# Altium integrated library Cypress PLD Simple.IntLib: 183 symbols (part 5 of 5)
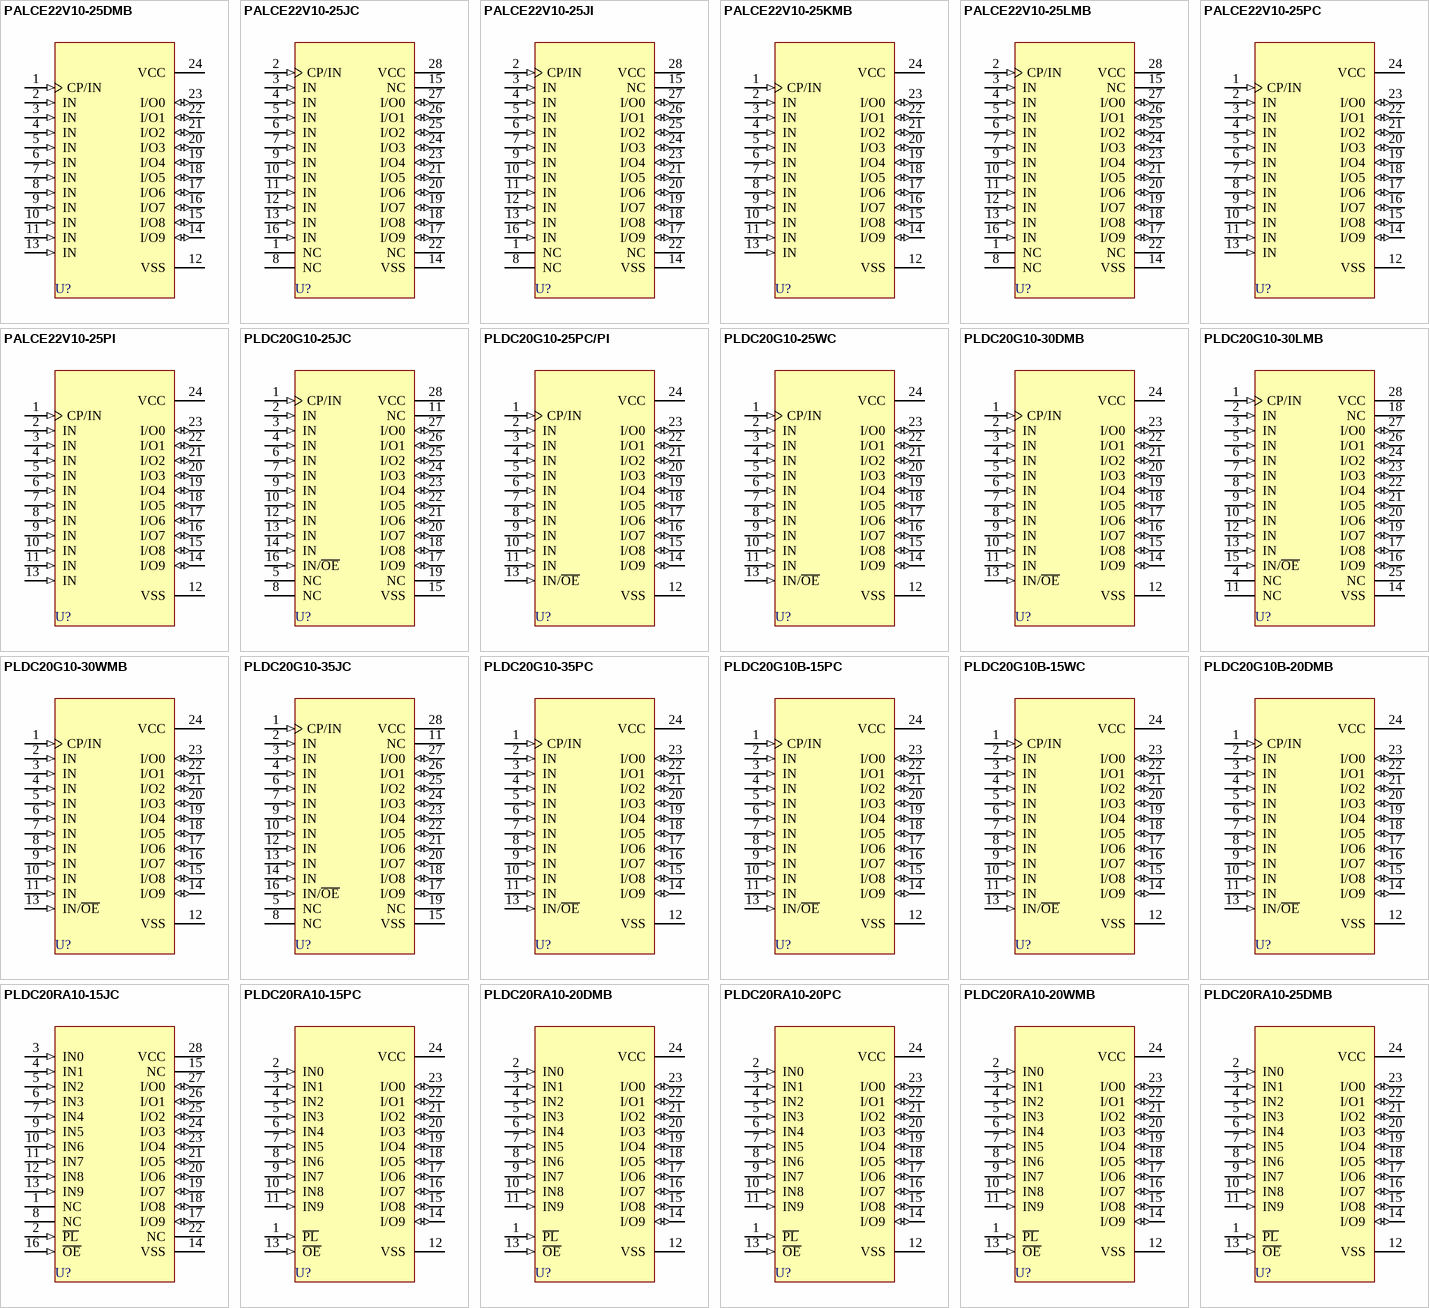
[diagram p11: symbols PALCE22V10-25DMB to PLDC20RA10-25DMB]

## PLDC20G10-30WMB
designator U?
CMOS Generic 24-Pin Reprogrammable Logic Device; ComponentAvailability: Not for New Design; Published: 11-Dec-2002; LatestRevisionDate: 04-Mar-2005; LatestRevisionNote: Stylized 3D Model Added.; DatasheetVersion: 26-Mar-1997; PackageVersion: Apr-2001; PackageReference: W14; Publisher: Altium Limited; PackageDescription: CerDIP, Window; 24 Leads; Row Spacing 7.62 mm; Pitch 2.54 mm; Code_JEDEC: MS-001-AF; ComponentLink1Description: Manufacturer Link; ComponentLink1URL: http://www.cypress.com/; ComponentLink2Description: Datasheet; ComponentLink2URL: http://www.cypress.com/portal/server.pt/gateway/PTARGS_0_2_1524_209_259_43/http%3B/sjapp20.mis.cypress.com%3B7001/publishedcontent/publish/design_resources/datasheets/contents/pldc20g10_5.pdf
footprint W14 (CerDIP, Window; 24 Leads; Row Spacing 7.62 mm; Pitch 2.54 mm)
3D model D14 (CerDIP, Window; 24 Leads; Row Spacing 7.62 mm; Pitch 2.54 mm)
pins: 1 CP/IN (in), 2 IN (in), 3 IN (in), 4 IN (in), 5 IN (in), 6 IN (in), 7 IN (in), 8 IN (in), 9 IN (in), 10 IN (in), 11 IN (in), 12 VSS (power), 13 IN/~{OE} (in), 14 I/O9 (io), 15 I/O8 (io), 16 I/O7 (io), 17 I/O6 (io), 18 I/O5 (io), 19 I/O4 (io), 20 I/O3 (io), 21 I/O2 (io), 22 I/O1 (io), 23 I/O0 (io), 24 VCC (power)

## PLDC20G10-35JC
designator U?
CMOS Generic 24-Pin Reprogrammable Logic Device; ComponentAvailability: Not for New Design; Published: 11-Dec-2002; LatestRevisionDate: 13-Apr-2006; LatestRevisionNote: IPC-7351 Footprint Added.; DatasheetVersion: 26-Mar-1997; PackageVersion: Jul-2000; PackageReference: J64; Publisher: Altium Limited; PackageDescription: 28-Pin Plastic Leaded Chip Carrier 1.27 mm Pitch; Code_IPC: PLCC-28; ComponentLink1Description: Manufacturer Link; ComponentLink1URL: http://www.cypress.com/; ComponentLink2Description: Datasheet; ComponentLink2URL: http://www.cypress.com/portal/server.pt/gateway/PTARGS_0_2_1524_209_259_43/http%3B/sjapp20.mis.cypress.com%3B7001/publishedcontent/publish/design_resources/datasheets/contents/pldc20g10_5.pdf
footprint J64_N (Leaded Chip Carrier, 28-Leads, Body 11.5x11.5mm, Pitch 1.27mm, IPC Medium Density)
footprint J64_L (Leaded Chip Carrier, 28-Leads, Body 11.5x11.5mm, Pitch 1.27mm, IPC High Density)
footprint J64_M (Leaded Chip Carrier, 28-Leads, Body 11.5x11.5mm, Pitch 1.27mm, IPC Low Density)
3D model PLDC20G10-J64 (28-Pin Plastic Leaded Chip Carrier 1.27 mm Pitch)
pins: 1 CP/IN (in), 2 IN (in), 3 IN (in), 4 IN (in), 5 NC, 6 IN (in), 7 IN (in), 8 NC, 9 IN (in), 10 IN (in), 11 NC, 12 IN (in), 13 IN (in), 14 IN (in), 15 VSS (power), 16 IN/~{OE} (in), 17 I/O9 (io), 18 I/O8 (io), 19 NC, 20 I/O7 (io), 21 I/O6 (io), 22 I/O5 (io), 23 I/O4 (io), 24 I/O3 (io), 25 I/O2 (io), 26 I/O1 (io), 27 I/O0 (io), 28 VCC (power)

## PLDC20G10-35PC
designator U?
CMOS Generic 24-Pin Reprogrammable Logic Device; ComponentAvailability: Not for New Design; Published: 11-Dec-2002; LatestRevisionDate: 06-Oct-2005; LatestRevisionNote: Increased PCB silkscreen length.; DatasheetVersion: 26-Mar-1997; PackageVersion: Mar-2005; PackageReference: P13; Publisher: Altium Limited; PackageDescription: DIP, Molded; 24 Leads; Row Spacing 7.62 mm; Pitch 2.54 mm; ComponentLink1Description: Manufacturer Link; ComponentLink1URL: http://www.cypress.com/; ComponentLink2Description: Datasheet; ComponentLink2URL: http://www.cypress.com/portal/server.pt/gateway/PTARGS_0_2_1524_209_259_43/http%3B/sjapp20.mis.cypress.com%3B7001/publishedcontent/publish/design_resources/datasheets/contents/pldc20g10_5.pdf
footprint P13 (DIP, Molded; 24 Leads; Row Spacing 7.62 mm; Pitch 2.54 mm)
3D model P13 (DIP, Molded; 24 Leads; Row Spacing 7.62 mm; Pitch 2.54 mm)
pins: 1 CP/IN (in), 2 IN (in), 3 IN (in), 4 IN (in), 5 IN (in), 6 IN (in), 7 IN (in), 8 IN (in), 9 IN (in), 10 IN (in), 11 IN (in), 12 VSS (power), 13 IN/~{OE} (in), 14 I/O9 (io), 15 I/O8 (io), 16 I/O7 (io), 17 I/O6 (io), 18 I/O5 (io), 19 I/O4 (io), 20 I/O3 (io), 21 I/O2 (io), 22 I/O1 (io), 23 I/O0 (io), 24 VCC (power)

## PLDC20G10B-15PC
designator U?
CMOS Generic 24-Pin Reprogrammable Logic Device; Published: 11-Dec-2002; LatestRevisionDate: 06-Oct-2005; LatestRevisionNote: Increased PCB silkscreen length.; DatasheetVersion: 26-Mar-1997; PackageVersion: Mar-2005; PackageReference: P13; Publisher: Altium Limited; PackageDescription: DIP, Molded; 24 Leads; Row Spacing 7.62 mm; Pitch 2.54 mm
footprint P13 (DIP, Molded; 24 Leads; Row Spacing 7.62 mm; Pitch 2.54 mm)
3D model P13 (DIP, Molded; 24 Leads; Row Spacing 7.62 mm; Pitch 2.54 mm)
pins: 1 CP/IN (in), 2 IN (in), 3 IN (in), 4 IN (in), 5 IN (in), 6 IN (in), 7 IN (in), 8 IN (in), 9 IN (in), 10 IN (in), 11 IN (in), 12 VSS (power), 13 IN/~{OE} (in), 14 I/O9 (io), 15 I/O8 (io), 16 I/O7 (io), 17 I/O6 (io), 18 I/O5 (io), 19 I/O4 (io), 20 I/O3 (io), 21 I/O2 (io), 22 I/O1 (io), 23 I/O0 (io), 24 VCC (power)

## PLDC20G10B-15WC
designator U?
CMOS Generic 24-Pin Reprogrammable Logic Device; ComponentAvailability: Not for New Design; Published: 11-Dec-2002; LatestRevisionDate: 04-Mar-2005; LatestRevisionNote: Stylized 3D Model Added.; DatasheetVersion: 26-Mar-1997; PackageVersion: Apr-2001; PackageReference: W14; Publisher: Altium Limited; PackageDescription: CerDIP, Window; 24 Leads; Row Spacing 7.62 mm; Pitch 2.54 mm; Code_JEDEC: MS-001-AF; ComponentLink1Description: Manufacturer Link; ComponentLink1URL: http://www.cypress.com/; ComponentLink2Description: Datasheet; ComponentLink2URL: http://www.cypress.com/portal/server.pt/gateway/PTARGS_0_2_1524_209_259_43/http%3B/sjapp20.mis.cypress.com%3B7001/publishedcontent/publish/design_resources/datasheets/contents/pldc20g10_5.pdf
footprint W14 (CerDIP, Window; 24 Leads; Row Spacing 7.62 mm; Pitch 2.54 mm)
3D model D14 (CerDIP, Window; 24 Leads; Row Spacing 7.62 mm; Pitch 2.54 mm)
pins: 1 CP/IN (in), 2 IN (in), 3 IN (in), 4 IN (in), 5 IN (in), 6 IN (in), 7 IN (in), 8 IN (in), 9 IN (in), 10 IN (in), 11 IN (in), 12 VSS (power), 13 IN/~{OE} (in), 14 I/O9 (io), 15 I/O8 (io), 16 I/O7 (io), 17 I/O6 (io), 18 I/O5 (io), 19 I/O4 (io), 20 I/O3 (io), 21 I/O2 (io), 22 I/O1 (io), 23 I/O0 (io), 24 VCC (power)

## PLDC20G10B-20DMB
designator U?
CMOS Generic 24-Pin Reprogrammable Logic Device; ComponentAvailability: Not for New Design; Published: 11-Dec-2002; LatestRevisionDate: 04-Mar-2005; LatestRevisionNote: Stylized 3D Model Added.; DatasheetVersion: 26-Mar-1997; PackageVersion: Jul-2001; PackageReference: D14; Publisher: Altium Limited; PackageDescription: CerDIP; 24 Leads; Row Spacing 7.62 mm; Pitch 2.54 mm; Code_JEDEC: MS-001-AF; ComponentLink1Description: Manufacturer Link; ComponentLink1URL: http://www.cypress.com/; ComponentLink2Description: Datasheet; ComponentLink2URL: http://www.cypress.com/portal/server.pt/gateway/PTARGS_0_2_1524_209_259_43/http%3B/sjapp20.mis.cypress.com%3B7001/publishedcontent/publish/design_resources/datasheets/contents/pldc20g10_5.pdf
footprint D14 (CerDIP; 24 Leads; Row Spacing 7.62 mm; Pitch 2.54 mm)
3D model D14 (CerDIP; 24 Leads; Row Spacing 7.62 mm; Pitch 2.54 mm)
pins: 1 CP/IN (in), 2 IN (in), 3 IN (in), 4 IN (in), 5 IN (in), 6 IN (in), 7 IN (in), 8 IN (in), 9 IN (in), 10 IN (in), 11 IN (in), 12 VSS (power), 13 IN/~{OE} (in), 14 I/O9 (io), 15 I/O8 (io), 16 I/O7 (io), 17 I/O6 (io), 18 I/O5 (io), 19 I/O4 (io), 20 I/O3 (io), 21 I/O2 (io), 22 I/O1 (io), 23 I/O0 (io), 24 VCC (power)

## PLDC20RA10-15JC
designator U?
Reprogrammable Asynchronous CMOS Logic Device; Published: 11-Dec-2002; LatestRevisionDate: 13-Apr-2006; LatestRevisionNote: IPC-7351 Footprint Added.; DatasheetVersion: 26-Mar-1997; PackageVersion: Jul-2000; PackageReference: J64; Publisher: Altium Limited; PackageDescription: 28-Pin Plastic Leaded Chip Carrier 1.27 mm Pitch; Code_IPC: PLCC-28; ComponentLink1Description: Manufacturer Link; ComponentLink1URL: http://www.cypress.com/
footprint J64_N (Leaded Chip Carrier, 28-Leads, Body 11.5x11.5mm, Pitch 1.27mm, IPC Medium Density)
footprint J64_L (Leaded Chip Carrier, 28-Leads, Body 11.5x11.5mm, Pitch 1.27mm, IPC High Density)
footprint J64_M (Leaded Chip Carrier, 28-Leads, Body 11.5x11.5mm, Pitch 1.27mm, IPC Low Density)
3D model PLDC20RA10-J64 (28-Pin Plastic Leaded Chip Carrier 1.27 mm Pitch)
pins: 1 NC, 2 ~{PL} (in), 3 IN0 (in), 4 IN1 (in), 5 IN2 (in), 6 IN3 (in), 7 IN4 (in), 8 NC, 9 IN5 (in), 10 IN6 (in), 11 IN7 (in), 12 IN8 (in), 13 IN9 (in), 14 VSS (power), 15 NC, 16 ~{OE} (in), 17 I/O9 (io), 18 I/O8 (io), 19 I/O7 (io), 20 I/O6 (io), 21 I/O5 (io), 22 NC, 23 I/O4 (io), 24 I/O3 (io), 25 I/O2 (io), 26 I/O1 (io), 27 I/O0 (io), 28 VCC (power)

## PLDC20RA10-15PC
designator U?
Reprogrammable Asynchronous CMOS Logic Device; Published: 11-Dec-2002; LatestRevisionDate: 06-Oct-2005; LatestRevisionNote: Increased PCB silkscreen length.; DatasheetVersion: 26-Mar-1997; PackageVersion: Mar-2005; PackageReference: P13; Publisher: Altium Limited; PackageDescription: DIP, Molded; 24 Leads; Row Spacing 7.62 mm; Pitch 2.54 mm; ComponentLink1Description: Manufacturer Link; ComponentLink1URL: http://www.cypress.com/
footprint P13 (DIP, Molded; 24 Leads; Row Spacing 7.62 mm; Pitch 2.54 mm)
3D model P13 (DIP, Molded; 24 Leads; Row Spacing 7.62 mm; Pitch 2.54 mm)
pins: 1 ~{PL} (in), 2 IN0 (in), 3 IN1 (in), 4 IN2 (in), 5 IN3 (in), 6 IN4 (in), 7 IN5 (in), 8 IN6 (in), 9 IN7 (in), 10 IN8 (in), 11 IN9 (in), 12 VSS (power), 13 ~{OE} (in), 14 I/O9 (io), 15 I/O8 (io), 16 I/O7 (io), 17 I/O6 (io), 18 I/O5 (io), 19 I/O4 (io), 20 I/O3 (io), 21 I/O2 (io), 22 I/O1 (io), 23 I/O0 (io), 24 VCC (power)

## PLDC20RA10-20DMB
designator U?
Reprogrammable Asynchronous CMOS Logic Device; Published: 11-Dec-2002; LatestRevisionDate: 04-Mar-2005; LatestRevisionNote: Stylized 3D Model Added.; DatasheetVersion: 26-Mar-1997; PackageVersion: Jul-2001; PackageReference: D14; Publisher: Altium Limited; PackageDescription: CerDIP; 24 Leads; Row Spacing 7.62 mm; Pitch 2.54 mm; Code_JEDEC: MS-001-AF; ComponentLink1Description: Manufacturer Link; ComponentLink1URL: http://www.cypress.com/
footprint D14 (CerDIP; 24 Leads; Row Spacing 7.62 mm; Pitch 2.54 mm)
3D model D14 (CerDIP; 24 Leads; Row Spacing 7.62 mm; Pitch 2.54 mm)
pins: 1 ~{PL} (in), 2 IN0 (in), 3 IN1 (in), 4 IN2 (in), 5 IN3 (in), 6 IN4 (in), 7 IN5 (in), 8 IN6 (in), 9 IN7 (in), 10 IN8 (in), 11 IN9 (in), 12 VSS (power), 13 ~{OE} (in), 14 I/O9 (io), 15 I/O8 (io), 16 I/O7 (io), 17 I/O6 (io), 18 I/O5 (io), 19 I/O4 (io), 20 I/O3 (io), 21 I/O2 (io), 22 I/O1 (io), 23 I/O0 (io), 24 VCC (power)

## PLDC20RA10-20PC
designator U?
Reprogrammable Asynchronous CMOS Logic Device; Published: 11-Dec-2002; LatestRevisionDate: 06-Oct-2005; LatestRevisionNote: Increased PCB silkscreen length.; DatasheetVersion: 26-Mar-1997; PackageVersion: Mar-2005; PackageReference: P13; Publisher: Altium Limited; PackageDescription: DIP, Molded; 24 Leads; Row Spacing 7.62 mm; Pitch 2.54 mm; ComponentLink1Description: Manufacturer Link; ComponentLink1URL: http://www.cypress.com/
footprint P13 (DIP, Molded; 24 Leads; Row Spacing 7.62 mm; Pitch 2.54 mm)
3D model P13 (DIP, Molded; 24 Leads; Row Spacing 7.62 mm; Pitch 2.54 mm)
pins: 1 ~{PL} (in), 2 IN0 (in), 3 IN1 (in), 4 IN2 (in), 5 IN3 (in), 6 IN4 (in), 7 IN5 (in), 8 IN6 (in), 9 IN7 (in), 10 IN8 (in), 11 IN9 (in), 12 VSS (power), 13 ~{OE} (in), 14 I/O9 (io), 15 I/O8 (io), 16 I/O7 (io), 17 I/O6 (io), 18 I/O5 (io), 19 I/O4 (io), 20 I/O3 (io), 21 I/O2 (io), 22 I/O1 (io), 23 I/O0 (io), 24 VCC (power)

## PLDC20RA10-20WMB
designator U?
Reprogrammable Asynchronous CMOS Logic Device; Published: 11-Dec-2002; LatestRevisionDate: 04-Mar-2005; LatestRevisionNote: Stylized 3D Model Added.; DatasheetVersion: 26-Mar-1997; PackageVersion: Apr-2001; PackageReference: W14; Publisher: Altium Limited; PackageDescription: CerDIP, Window; 24 Leads; Row Spacing 7.62 mm; Pitch 2.54 mm; Code_JEDEC: MS-001-AF; ComponentLink1Description: Manufacturer Link; ComponentLink1URL: http://www.cypress.com/
footprint W14 (CerDIP, Window; 24 Leads; Row Spacing 7.62 mm; Pitch 2.54 mm)
3D model D14 (CerDIP, Window; 24 Leads; Row Spacing 7.62 mm; Pitch 2.54 mm)
pins: 1 ~{PL} (in), 2 IN0 (in), 3 IN1 (in), 4 IN2 (in), 5 IN3 (in), 6 IN4 (in), 7 IN5 (in), 8 IN6 (in), 9 IN7 (in), 10 IN8 (in), 11 IN9 (in), 12 VSS (power), 13 ~{OE} (in), 14 I/O9 (io), 15 I/O8 (io), 16 I/O7 (io), 17 I/O6 (io), 18 I/O5 (io), 19 I/O4 (io), 20 I/O3 (io), 21 I/O2 (io), 22 I/O1 (io), 23 I/O0 (io), 24 VCC (power)

## PLDC20RA10-25DMB
designator U?
Reprogrammable Asynchronous CMOS Logic Device; Published: 11-Dec-2002; LatestRevisionDate: 04-Mar-2005; LatestRevisionNote: Stylized 3D Model Added.; DatasheetVersion: 26-Mar-1997; PackageVersion: Jul-2001; PackageReference: D14; Publisher: Altium Limited; PackageDescription: CerDIP; 24 Leads; Row Spacing 7.62 mm; Pitch 2.54 mm; Code_JEDEC: MS-001-AF; ComponentLink1Description: Manufacturer Link; ComponentLink1URL: http://www.cypress.com/
footprint D14 (CerDIP; 24 Leads; Row Spacing 7.62 mm; Pitch 2.54 mm)
3D model D14 (CerDIP; 24 Leads; Row Spacing 7.62 mm; Pitch 2.54 mm)
pins: 1 ~{PL} (in), 2 IN0 (in), 3 IN1 (in), 4 IN2 (in), 5 IN3 (in), 6 IN4 (in), 7 IN5 (in), 8 IN6 (in), 9 IN7 (in), 10 IN8 (in), 11 IN9 (in), 12 VSS (power), 13 ~{OE} (in), 14 I/O9 (io), 15 I/O8 (io), 16 I/O7 (io), 17 I/O6 (io), 18 I/O5 (io), 19 I/O4 (io), 20 I/O3 (io), 21 I/O2 (io), 22 I/O1 (io), 23 I/O0 (io), 24 VCC (power)

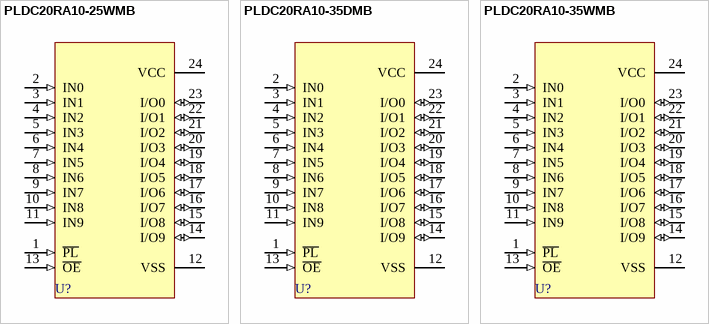
[diagram p7: symbols PLDC20RA10-25WMB to PLDC20RA10-35WMB]

## PLDC20RA10-25WMB
designator U?
Reprogrammable Asynchronous CMOS Logic Device; Published: 11-Dec-2002; LatestRevisionDate: 04-Mar-2005; LatestRevisionNote: Stylized 3D Model Added.; DatasheetVersion: 26-Mar-1997; PackageVersion: Apr-2001; PackageReference: W14; Publisher: Altium Limited; PackageDescription: CerDIP, Window; 24 Leads; Row Spacing 7.62 mm; Pitch 2.54 mm; Code_JEDEC: MS-001-AF; ComponentLink1Description: Manufacturer Link; ComponentLink1URL: http://www.cypress.com/
footprint W14 (CerDIP, Window; 24 Leads; Row Spacing 7.62 mm; Pitch 2.54 mm)
3D model D14 (CerDIP, Window; 24 Leads; Row Spacing 7.62 mm; Pitch 2.54 mm)
pins: 1 ~{PL} (in), 2 IN0 (in), 3 IN1 (in), 4 IN2 (in), 5 IN3 (in), 6 IN4 (in), 7 IN5 (in), 8 IN6 (in), 9 IN7 (in), 10 IN8 (in), 11 IN9 (in), 12 VSS (power), 13 ~{OE} (in), 14 I/O9 (io), 15 I/O8 (io), 16 I/O7 (io), 17 I/O6 (io), 18 I/O5 (io), 19 I/O4 (io), 20 I/O3 (io), 21 I/O2 (io), 22 I/O1 (io), 23 I/O0 (io), 24 VCC (power)

## PLDC20RA10-35DMB
designator U?
Reprogrammable Asynchronous CMOS Logic Device; Published: 11-Dec-2002; LatestRevisionDate: 04-Mar-2005; LatestRevisionNote: Stylized 3D Model Added.; DatasheetVersion: 26-Mar-1997; PackageVersion: Jul-2001; PackageReference: D14; Publisher: Altium Limited; PackageDescription: CerDIP; 24 Leads; Row Spacing 7.62 mm; Pitch 2.54 mm; Code_JEDEC: MS-001-AF; ComponentLink1Description: Manufacturer Link; ComponentLink1URL: http://www.cypress.com/
footprint D14 (CerDIP; 24 Leads; Row Spacing 7.62 mm; Pitch 2.54 mm)
3D model D14 (CerDIP; 24 Leads; Row Spacing 7.62 mm; Pitch 2.54 mm)
pins: 1 ~{PL} (in), 2 IN0 (in), 3 IN1 (in), 4 IN2 (in), 5 IN3 (in), 6 IN4 (in), 7 IN5 (in), 8 IN6 (in), 9 IN7 (in), 10 IN8 (in), 11 IN9 (in), 12 VSS (power), 13 ~{OE} (in), 14 I/O9 (io), 15 I/O8 (io), 16 I/O7 (io), 17 I/O6 (io), 18 I/O5 (io), 19 I/O4 (io), 20 I/O3 (io), 21 I/O2 (io), 22 I/O1 (io), 23 I/O0 (io), 24 VCC (power)

## PLDC20RA10-35WMB
designator U?
Reprogrammable Asynchronous CMOS Logic Device; Published: 11-Dec-2002; LatestRevisionDate: 04-Mar-2005; LatestRevisionNote: Stylized 3D Model Added.; DatasheetVersion: 26-Mar-1997; PackageVersion: Apr-2001; PackageReference: W14; Publisher: Altium Limited; PackageDescription: CerDIP, Window; 24 Leads; Row Spacing 7.62 mm; Pitch 2.54 mm; Code_JEDEC: MS-001-AF; ComponentLink1Description: Manufacturer Link; ComponentLink1URL: http://www.cypress.com/
footprint W14 (CerDIP, Window; 24 Leads; Row Spacing 7.62 mm; Pitch 2.54 mm)
3D model D14 (CerDIP, Window; 24 Leads; Row Spacing 7.62 mm; Pitch 2.54 mm)
pins: 1 ~{PL} (in), 2 IN0 (in), 3 IN1 (in), 4 IN2 (in), 5 IN3 (in), 6 IN4 (in), 7 IN5 (in), 8 IN6 (in), 9 IN7 (in), 10 IN8 (in), 11 IN9 (in), 12 VSS (power), 13 ~{OE} (in), 14 I/O9 (io), 15 I/O8 (io), 16 I/O7 (io), 17 I/O6 (io), 18 I/O5 (io), 19 I/O4 (io), 20 I/O3 (io), 21 I/O2 (io), 22 I/O1 (io), 23 I/O0 (io), 24 VCC (power)